# Altium footprint library Generic_Pads.PcbLib: 4 footprints
Each footprint in its own frame and in the unit in brackets; x right, y up, seen from the top. Pads: shape width x height; smd on the part's side, far side on the other; paste and mask are expansions set on the pad; w line width, h text height; cw(c..) or ccw(c..) is an arc to the next point about the centre after c.
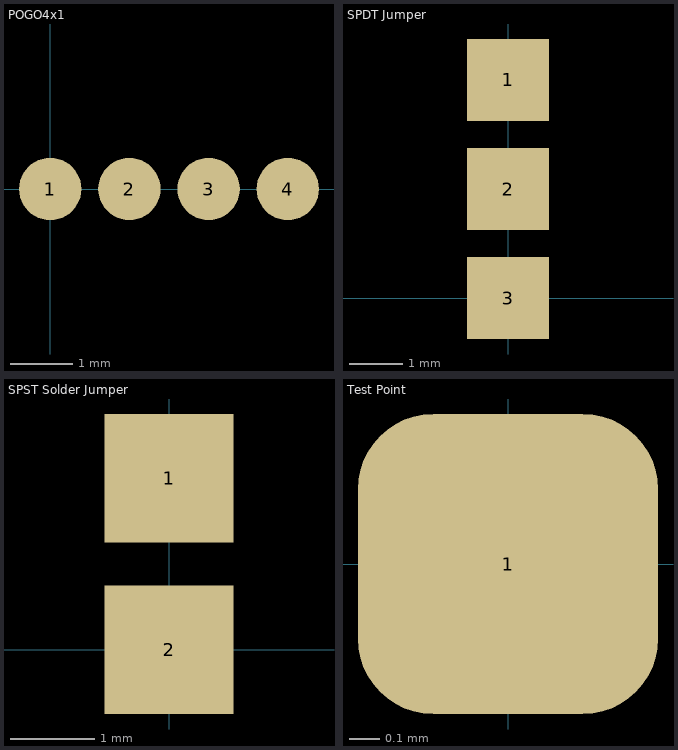
[diagram p0: the footprints below, top view; thin cyan lines are the x and y axes]

## POGO4x1 [mm]
pads (4):
  round 1 smd mask+0: 1(0,0) 2(1.27,0) 3(2.54,0) 4(3.81,0)

## SPDT Jumper [mil]
pads (3):
  rect 60x60 smd paste-99999 mask+4: 1(0,160) 2(0,80) 3(0,0)

## SPST Solder Jumper [mil]
pads (2):
  rect 60x60 smd paste-99999 mask+4: 1(0,80) 2(0,0)

## Test Point [mm]
pads (1):
  rrect50% 1x1 / inner rrect60% 0x0 / far side rrect60% 0x0 all layers, no hole: 1(0,0)